# Altium schematic symbol library BLM21AG121SN1D.SchLib: 1 symbol
Pins are listed as number, name and electrical type; pins without a type are passive.

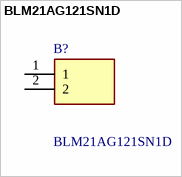
[diagram p0: symbol BLM21AG121SN1D]

## BLM21AG121SN1D
designator B?
BLM21_N1D Series EMI Suppression Filter 120+/-25% at 100MHz 1A @85; Manufacturer_Name: Murata Electronics; Geometry.Height: 1.05mm; Manufacturer_Part_Number: BLM21AG121SN1D; Mouser Part Number: 81-BLM21AG121SN1D; Mouser Price/Stock: https://www.mouser.co.uk/ProductDetail/Murata-Electronics/BLM21AG121SN1D?qs=Yx1HeqtvVDh3I5YNpjdt%252BQ%3D%3D; Arrow Part Number: BLM21AG121SN1D; Arrow Price/Stock: https://www.arrow.com/en/products/blm21ag121sn1d/murata-manufacturing?utm_currency=USD&region=nac; Datasheet Link: https://www.murata.com/en-us/products/productdetail?partno=BLM21AG121SN1%23
footprint BLM21AG102BH1J
pins: 1, 2